# EAGLE library part 741X083331JP (library 741X083331JP Resistor Array)
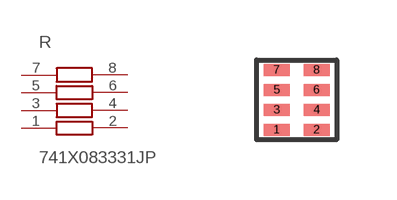
[diagram p0: symbol with the pads of 0402; footprint 0402]

Designator prefix R

## 741X083331JP  [0402]
1  1
2  2
3  3
4  4
5  5
6  6
7  7
8  8

## Footprint 0402 (pad centres in mm)
smd 0.65 x 0.3: 1 -0.5,-0.75; 2 0.5,-0.75; 3 -0.5,-0.25; 4 0.5,-0.25; 5 -0.5,0.25; 6 0.5,0.25; 7 -0.5,0.75; 8 0.5,0.75